# Altium schematic symbol library GRM188R61E106KA73D.SchLib: 1 symbol
Pins are listed as number, name and electrical type; pins without a type are passive.

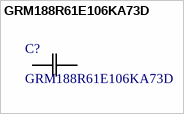
[diagram p0: symbol GRM188R61E106KA73D]

## GRM188R61E106KA73D
designator C?
Description; Manufacturer_Name: Murata; Copyright: Copyright (C) 2026 Ultra Librarian. All rights reserved.; Manufacturer_Part_Number: GRM188R61E106KA73D
footprint CAP_GRM188_+-0.2_MUR
pins: 1, 2